# Altium schematic symbol library mySchlib.SchLib: 1 symbol
Pins are listed as number, name and electrical type; pins without a type are passive.

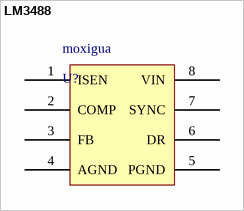
[diagram p0: symbol LM3488]

## LM3488
designator moxigua, comment U?
footprint LM3488 (Boost升压芯片)
pins: 1 ISEN, 2 COMP, 3 FB, 4 AGND, 5 PGND, 6 DR, 7 SYNC, 8 VIN